# Altium schematic symbol library MyLibraryV2.SchLib: 572 symbols (part 7 of 11)
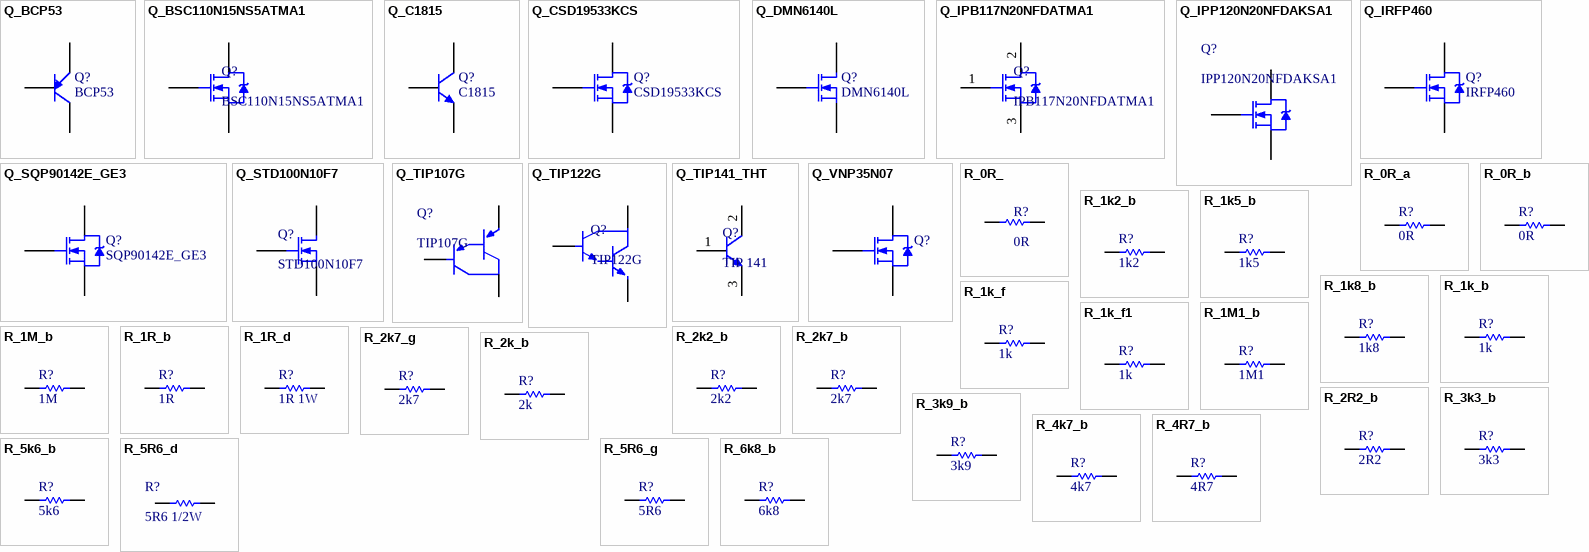
[diagram p22: symbols Q_BCP53 to R_6k8_b]

## R_2k7_g
designator R?, comment 2k7
Resistor SMD 2010; Manufacturer: TE Connectivity; Manufacturer Part Number: 35022K7JT; ComponentLink1URL: http://datasheet.octopart.com/35022K7JT-TE-Connectivity-datasheet-130072828.pdf?src-supplier=Mouser; ComponentLink1Description: http://datasheet.octopart.com/35022K7JT-TE-Connectivity-datasheet-130072828.pdf?src-supplier=Mouser; ComponentLink2URL: http://datasheet.octopart.com/35022K7JT-TE-Connectivity-datasheet-130072828.pdf?src-supplier=Avnet; ComponentLink2Description: http://datasheet.octopart.com/35022K7JT-TE-Connectivity-datasheet-130072828.pdf?src-supplier=Avnet; ComponentLink3URL: http://datasheet.octopart.com/35022K7JT-TE-Connectivity-datasheet-130072828.pdf?src-supplier=Digikey; ComponentLink3Description: http://datasheet.octopart.com/35022K7JT-TE-Connectivity-datasheet-130072828.pdf?src-supplier=Digikey; ComponentLink4URL: http://datasheet.octopart.com/35022K7JT-TE-Connectivity-datasheet-130072828.pdf?src-supplier=Farnell; ComponentLink4Description: http://datasheet.octopart.com/35022K7JT-TE-Connectivity-datasheet-130072828.pdf?src-supplier=Farnell; ComponentLink5URL: http://datasheet.octopart.com/35022K7JT-TE-Connectivity-datasheet-130072828.pdf?src-supplier=Onlinecomponents.com; ComponentLink5Description: http://datasheet.octopart.com/35022K7JT-TE-Connectivity-datasheet-130072828.pdf?src-supplier=Onlinecomponents.com; ComponentLink6URL: http://datasheet.octopart.com/35022K7JT-TE-Connectivity-datasheet-130072828.pdf?src-supplier=Newark; ComponentLink6Description: http://datasheet.octopart.com/35022K7JT-TE-Connectivity-datasheet-130072828.pdf?src-supplier=Newark; ComponentLink7URL: http://datasheet.octopart.com/35022K7JT-TE-Connectivity-datasheet-130072828.pdf?src-supplier=Electro+Sonic; ComponentLink7Description: http://datasheet.octopart.com/35022K7JT-TE-Connectivity-datasheet-130072828.pdf?src-supplier=Electro+Sonic; ComponentLink8URL: http://datasheet.octopart.com/35022K7JT-TE-Connectivity-datasheet-130072828.pdf?src-supplier=Heilind+Electronics; ComponentLink8Description: http://datasheet.octopart.com/35022K7JT-TE-Connectivity-datasheet-130072828.pdf?src-supplier=Heilind+Electronics; ComponentLink9URL: http://datasheet.octopart.com/35022K7JT-TE-Connectivity-datasheet-130072828.pdf?src-supplier=Interstate+Connecting+Components; ComponentLink9Description: http://datasheet.octopart.com/35022K7JT-TE-Connectivity-datasheet-130072828.pdf?src-supplier=Interstate+Connecting+Components; Supplier 1: Digikey; Supplier Part Number 1: A143333CT-ND; RoHS: No; Category: Chip SMD Resistors; Stock 1: 824; Pricing 1: 1=0,9, 10=0,512, 50=0,3676, 100=0,3224, 500=0,24714, 1000=0,2233 (USD); Value: 2k7
footprint R_2010_5025_a
pins: 1, 2

## R_2k_b
designator R?, comment 2k
Resistor SMD 0805; Manufacturer: Stackpole Electronics; Manufacturer Part Number: RMCF0805FT2K00; Tolerance: 1%; Power Rating: 125mW; Temperature Coefficient: 100ppm/°C; Mounting Technology: Surface Mount; Case/Package: 0805; Case Code (Metric): 2012; Case Code (Imperial): 0805; Contact Plating: Tin,Matte; Min Operating Temperature: -55°C; Max Operating Temperature: 155°C; Packaging: Tape and Reel; Number of Terminations: 2; Max Power Dissipation: 125mW; Features: Automotive AEC-Q200; Series: RMCF; Construction: Rectangular; Length: 2mm; Width: 0.049inch; Height: 0.026inch; Depth: 1.25mm; Ratings: AEC-Q200; Radiation Hardening: No; Military Standard: Not; Lead Free: Lead Free; RoHS Compliant: Yes; ComponentLink1URL: http://components.arrow.com/part/dataview/50507890S7171789N1174?src-supplier=Arrow+Electronics; ComponentLink1Description: http://components.arrow.com/part/dataview/50507890S7171789N1174?src-supplier=Arrow+Electronics; ComponentLink2URL: https://www.seielect.com/catalog/SEI-Packaging.pdf?src-supplier=Digikey; ComponentLink2Description: https://www.seielect.com/catalog/SEI-Packaging.pdf?src-supplier=Digikey; ComponentLink3URL: https://www.seielect.com/catalog/SEI-RMCF_RMCP.pdf?src-supplier=Avnet; ComponentLink3Description: https://www.seielect.com/catalog/SEI-RMCF_RMCP.pdf?src-supplier=Avnet; ComponentLink4URL: http://www.seielect.com/Catalog/SEI-rmc.pdf?src-supplier=Future+Electronics; ComponentLink4Description: http://www.seielect.com/Catalog/SEI-rmc.pdf?src-supplier=Future+Electronics; ComponentLink5URL: https://datasheet.octopart.com/RMCF0805FT2K00-Stackpole-Electronics-datasheet-11547379.pdf?src-supplier=Future+Electronics; ComponentLink5Description: https://datasheet.octopart.com/RMCF0805FT2K00-Stackpole-Electronics-datasheet-11547379.pdf?src-supplier=Future+Electronics; ComponentLink6URL: https://www.verical.com/server-webapp/html/getDatasheet?partID=362048&src-supplier=Verical; ComponentLink6Description: https://www.verical.com/server-webapp/html/getDatasheet?partID=362048&src-supplier=Verical; Supplier 1: Digikey; Supplier Part Number 1: RMCF0805FT2K00CT-ND; RoHS: Yes; Category: Chip SMD Resistors; Stock 1: 64301; Pricing 1: 1=0,1, 10=0,02, 50=0,0124, 100=0,0103, 500=0,007, 1000=0,00601 (USD); Value: 2k
footprint R_0805_2012_a (Chip Resistor; Body 2.0 x 1.3 mm (LxW typ))
pins: 1, 2

## R_2R2_b
designator R?, comment 2R2
Resistor SMD 0805; Manufacturer: Stackpole Electronics; Manufacturer Part Number: RMCF0805FT2R20; Tolerance: 1%; Max Power Dissipation: 125mW; Temperature Coefficient: 200ppm/°C; Voltage Rating: 150V; Mounting Technology: Surface Mount; Case/Package: 0805; Case Code (Metric): 2012; Case Code (Imperial): 0805; Contact Plating: Tin,Matte; Min Operating Temperature: -55°C; Max Operating Temperature: 155°C; Packaging: Tape and Reel; Number of Terminations: 2; Features: Automotive AEC-Q200; Series: RMCF; Ratings: AEC-Q200; Radiation Hardening: No; RoHS Compliant: Yes; ComponentLink1URL: http://components.arrow.com/part/dataview/50863995S9485631N1174?src-supplier=Arrow+Electronics; ComponentLink1Description: http://components.arrow.com/part/dataview/50863995S9485631N1174?src-supplier=Arrow+Electronics; ComponentLink2URL: https://www.seielect.com/Catalog/SEI-RMCF_RMCP.pdf?src-supplier=Digikey; ComponentLink2Description: https://www.seielect.com/Catalog/SEI-RMCF_RMCP.pdf?src-supplier=Digikey; ComponentLink3URL: https://www.seielect.com/catalog/SEI-Packaging.pdf?src-supplier=Digikey; ComponentLink3Description: https://www.seielect.com/catalog/SEI-Packaging.pdf?src-supplier=Digikey; ComponentLink4URL: https://www.seielect.com/catalog/SEI-RMCF_RMCP.pdf?src-supplier=Avnet; ComponentLink4Description: https://www.seielect.com/catalog/SEI-RMCF_RMCP.pdf?src-supplier=Avnet; Supplier 1: Digikey; Supplier Part Number 1: RMCF0805FT2R20CT-ND; RoHS: Yes; Category: Chip SMD Resistors; Stock 1: 242170; Pricing 1: 1=0,1, 10=0,025, 50=0,0156, 100=0,0131, 500=0,00896, 1000=0,00773 (USD); Value: 2R2
footprint R_0805_2012_a (Chip Resistor; Body 2.0 x 1.3 mm (LxW typ))
pins: 1, 2

## R_3k3_b
designator R?, comment 3k3
Resistor SMD 0805; Manufacturer: Stackpole Electronics; Manufacturer Part Number: RMCF0805FT3K30; Tolerance: 1%; Max Power Dissipation: 125mW; Temperature Coefficient: 100ppm/°C; Mounting Technology: Surface Mount; Case/Package: 0805; Case Code (Metric): 2012; Case Code (Imperial): 0805; Contact Plating: Tin,Matte; Min Operating Temperature: -55°C; Max Operating Temperature: 155°C; Packaging: Tape and Reel; Number of Terminations: 2; Features: Automotive AEC-Q200; Series: RMCF; Construction: Rectangular; Length: 0.079inch; Width: 0.049inch; Height: 0.026inch; Depth: 1.25mm; Ratings: AEC-Q200; Radiation Hardening: No; Military Standard: Not; Lead Free: Lead Free; RoHS Compliant: Yes; ComponentLink1URL: http://components.arrow.com/part/dataview/44988206S7289285N1174?src-supplier=Arrow+Electronics; ComponentLink1Description: http://components.arrow.com/part/dataview/44988206S7289285N1174?src-supplier=Arrow+Electronics; ComponentLink2URL: https://www.seielect.com/catalog/sei-rmcf_rmcp.pdf?src-supplier=Digikey; ComponentLink2Description: https://www.seielect.com/catalog/sei-rmcf_rmcp.pdf?src-supplier=Digikey; ComponentLink3URL: https://www.seielect.com/catalog/SEI-Packaging.pdf?src-supplier=Digikey; ComponentLink3Description: https://www.seielect.com/catalog/SEI-Packaging.pdf?src-supplier=Digikey; ComponentLink4URL: https://www.seielect.com/catalog/SEI-RMCF_RMCP.pdf?src-supplier=Avnet; ComponentLink4Description: https://www.seielect.com/catalog/SEI-RMCF_RMCP.pdf?src-supplier=Avnet; ComponentLink5URL: https://datasheet.octopart.com/RMCF0805FT3K30-Stackpole-Electronics-datasheet-12534581.pdf?src-supplier=Future+Electronics; ComponentLink5Description: https://datasheet.octopart.com/RMCF0805FT3K30-Stackpole-Electronics-datasheet-12534581.pdf?src-supplier=Future+Electronics; ComponentLink6URL: https://www.verical.com/server-webapp/html/getDatasheet?partID=365387&src-supplier=Verical; ComponentLink6Description: https://www.verical.com/server-webapp/html/getDatasheet?partID=365387&src-supplier=Verical; ComponentLink7URL: https://datasheet.octopart.com/RMCF0805FT3K30-Stackpole-Electronics-datasheet-154799224.pdf?src-supplier=Master+Electronics; ComponentLink7Description: https://datasheet.octopart.com/RMCF0805FT3K30-Stackpole-Electronics-datasheet-154799224.pdf?src-supplier=Master+Electronics; Supplier 1: Digikey; Supplier Part Number 1: RMCF0805FT3K30CT-ND; RoHS: Yes; Category: Chip SMD Resistors; Stock 1: 156926; Pricing 1: 1=0,1, 10=0,02, 50=0,0124, 100=0,0103, 500=0,007, 1000=0,00601 (USD); Value: 3k3
footprint R_0805_2012_a (Chip Resistor; Body 2.0 x 1.3 mm (LxW typ))
pins: 1, 2

## R_3k9_b
designator R?, comment 3k9
Resistor SMD 0805; Manufacturer: Bourns; Manufacturer Part Number: CR0805-FX-3901ELF; Power Rating: 125mW; Tolerance: 1%; Voltage Rating: 150V; Temperature Coefficient: 100ppm/°C; Mounting Technology: Surface Mount; Case/Package: 0805; Case Code (Imperial): 0805; Case Code (Metric): 2012; Contact Plating: Tin; Min Operating Temperature: -55°C; Max Operating Temperature: 155°C; Packaging: Tape and Reel; Package Quantity: 5000; Termination: SMD/SMT; Features: Moisture Resistant; Series: CR0805; Max Power Dissipation: 125mW; Number of Terminations: 2; Length: 2mm; Width: 1.25mm; Height: 0.5mm; Thickness: 508um; Radiation Hardening: No; RoHS Compliant: Yes; ComponentLink1URL: https://datasheet.ciiva.com/5552/chpreztr-5552395.pdf?src-supplier=Mouser; ComponentLink1Description: https://datasheet.ciiva.com/5552/chpreztr-5552395.pdf?src-supplier=Mouser; ComponentLink2URL: https://datasheet.ciiva.com/9122/chpreztr-9122908.pdf?src-supplier=Avnet; ComponentLink2Description: https://datasheet.ciiva.com/9122/chpreztr-9122908.pdf?src-supplier=Avnet; Supplier 1: Digikey; Supplier Part Number 1: 118-CR0805-FX-3901ELFCT-ND; RoHS: Yes; Category: Chip SMD Resistors; Stock 1: 122964; Pricing 1: 1=0,1, 10=0,021, 50=0,0132, 100=0,011, 500=0,00744, 1000=0,00639 (USD); Value: 3k9
footprint R_0805_2012_a (Chip Resistor; Body 2.0 x 1.3 mm (LxW typ))
pins: 1, 2

## R_4k7_b
designator R?, comment 4k7
Resistor SMD 0805; Manufacturer: Stackpole Electronics; Manufacturer Part Number: RMCF0805FT4K70; Tolerance: 1%; Power Rating: 125mW; Temperature Coefficient: 100ppm/°C; Mounting Technology: Surface Mount; Case/Package: 0805; Case Code (Metric): 2012; Case Code (Imperial): 0805; Contact Plating: Tin,Matte; Min Operating Temperature: -55°C; Max Operating Temperature: 155°C; Packaging: Tape and Reel; Number of Terminations: 2; Max Power Dissipation: 125mW; Features: Automotive AEC-Q200; Series: RMCF; Construction: Rectangular; Length: 2mm; Width: 0.049inch; Height: 0.026inch; Depth: 1.25mm; Ratings: AEC-Q200; Radiation Hardening: No; Military Standard: Not; Lead Free: Lead Free; RoHS Compliant: Yes; ComponentLink1URL: https://www.seielect.com/catalog/SEI-RMCF_RMCP.pdf?src-supplier=Avnet; ComponentLink1Description: https://www.seielect.com/catalog/SEI-RMCF_RMCP.pdf?src-supplier=Avnet; ComponentLink2URL: https://www.seielect.com/Catalog/SEI-RMCF_RMCP.pdf?src-supplier=Digikey; ComponentLink2Description: https://www.seielect.com/Catalog/SEI-RMCF_RMCP.pdf?src-supplier=Digikey; ComponentLink3URL: https://www.seielect.com/catalog/SEI-Packaging.pdf?src-supplier=Digikey; ComponentLink3Description: https://www.seielect.com/catalog/SEI-Packaging.pdf?src-supplier=Digikey; ComponentLink4URL: http://components.arrow.com/part/dataview/44988207S7163511N1174?src-supplier=Arrow+Electronics; ComponentLink4Description: http://components.arrow.com/part/dataview/44988207S7163511N1174?src-supplier=Arrow+Electronics; ComponentLink5URL: http://www.seielect.com/catalog/sei-rmc.pdf?src-supplier=Future+Electronics; ComponentLink5Description: http://www.seielect.com/catalog/sei-rmc.pdf?src-supplier=Future+Electronics; ComponentLink6URL: https://datasheet.octopart.com/RMCF0805FT4K70-Stackpole-Electronics-datasheet-11547379.pdf?src-supplier=Future+Electronics; ComponentLink6Description: https://datasheet.octopart.com/RMCF0805FT4K70-Stackpole-Electronics-datasheet-11547379.pdf?src-supplier=Future+Electronics; ComponentLink7URL: https://www.verical.com/server-webapp/html/getDatasheet?partID=409513&src-supplier=Verical; ComponentLink7Description: https://www.verical.com/server-webapp/html/getDatasheet?partID=409513&src-supplier=Verical; Supplier 1: Digikey; Supplier Part Number 1: RMCF0805FT4K70CT-ND; RoHS: Yes; Category: Chip SMD Resistors; Stock 1: 619298; Pricing 1: 1=0,1, 10=0,02, 50=0,0124, 100=0,0103, 500=0,007, 1000=0,00601 (USD); Value: 4k7
footprint R_0805_2012_a (Chip Resistor; Body 2.0 x 1.3 mm (LxW typ))
pins: 1, 2

## R_4R7_b
designator R?, comment 4R7
Resistor SMD 0805; Manufacturer: Stackpole Electronics; Manufacturer Part Number: RMCF0805FT4R70; Tolerance: 1%; Max Power Dissipation: 125mW; Temperature Coefficient: 200ppm/°C; Voltage Rating: 150V; Mounting Technology: Surface Mount; Case/Package: 0805; Case Code (Metric): 2012; Case Code (Imperial): 0805; Contact Plating: Tin,Matte; Min Operating Temperature: -55°C; Max Operating Temperature: 155°C; Packaging: Tape and Reel; Number of Terminations: 2; Features: Automotive AEC-Q200; Series: RMCF; Ratings: AEC-Q200; Radiation Hardening: No; RoHS Compliant: Yes; ComponentLink1URL: http://components.arrow.com/part/dataview/50867799S797658N1174?src-supplier=Arrow+Electronics; ComponentLink1Description: http://components.arrow.com/part/dataview/50867799S797658N1174?src-supplier=Arrow+Electronics; ComponentLink2URL: https://www.seielect.com/catalog/SEI-RMCF_RMCP.pdf?src-supplier=Avnet; ComponentLink2Description: https://www.seielect.com/catalog/SEI-RMCF_RMCP.pdf?src-supplier=Avnet; ComponentLink3URL: https://www.seielect.com/catalog/SEI-Packaging.pdf?src-supplier=Digikey; ComponentLink3Description: https://www.seielect.com/catalog/SEI-Packaging.pdf?src-supplier=Digikey; Supplier 1: Digikey; Supplier Part Number 1: RMCF0805FT4R70CT-ND; RoHS: Yes; Category: Chip SMD Resistors; Stock 1: 32263; Pricing 1: 1=0,1, 10=0,025, 50=0,0156, 100=0,0131, 500=0,00896, 1000=0,00773 (USD); Value: 4R7
footprint R_0805_2012_a (Chip Resistor; Body 2.0 x 1.3 mm (LxW typ))
pins: 1, 2

## R_5k6_b
designator R?, comment 5k6
Resistor SMD 0805; Manufacturer: TE Connectivity; Manufacturer Part Number: CRG0805F5K6; Tolerance: 1%; Temperature Coefficient: 100ppm/°C; Power Rating: 125mW; Voltage Rating: 150V; Number of Resistors: 1; Mounting Technology: Surface Mount; Case/Package: 0805; Case Code (Imperial): 0805; Case Code (Metric): 2012; Min Operating Temperature: -55°C; Max Operating Temperature: 125°C; Packaging: Tape and Reel; Number of Terminations: 2; Series: CRG; Resistor Type: Thick Film; Termination: Solder; Technology: THICK FILM; Length: 2mm; Width: 1.25mm; Height: 0.55mm; Depth: 1.25mm; RoHS Compliant: Yes; ELV: Compliant; ComponentLink1URL: https://datasheet.ciiva.com/11809/0900766b800a696e-11809932.pdf?src-supplier=Rs; ComponentLink1Description: https://datasheet.ciiva.com/11809/0900766b800a696e-11809932.pdf?src-supplier=Rs; ComponentLink2URL: https://datasheet.ciiva.com/12563/eng-ds-1773204-g-12563327.pdf?src-supplier=Mouser; ComponentLink2Description: https://datasheet.ciiva.com/12563/eng-ds-1773204-g-12563327.pdf?src-supplier=Mouser; Supplier 1: Digikey; Supplier Part Number 1: A126380CT-ND; RoHS: Yes; Stock 1: 44154; Pricing 1: 1=0,1, 10=0,034, 50=0,0218, 100=0,0182, 500=0,01264, 1000=0,01093 (USD); Value: 5k6
footprint R_0805_2012_a (Chip Resistor; Body 2.0 x 1.3 mm (LxW typ))
pins: 1, 2

## R_5R6_d
designator R?, comment 5R6 1/2W
Resistor SMD 2512; Value: 5R6 1/2W
footprint R_2512_6432_a
pins: 1, 2

## R_5R6_g
designator R?, comment 5R6
Resistor SMD 2010; Manufacturer: Yageo; Manufacturer Part Number: RC2010FK-075R6L; Power Rating: 750mW; Tolerance: 1%; Voltage Rating: 200V; Temperature Coefficient: 200ppm/°C; Case/Package: 2010; Case Code (Imperial): 2010; Case Code (Metric): 5025; Min Operating Temperature: -55°C; Max Operating Temperature: 155°C; Packaging: Tape and Reel; Termination: SMD/SMT; Number of Terminations: 2; Max Power Dissipation: 750mW; Features: Moisture Resistant; Series: RC; Length: 0.197inch; Width: 2.5mm; Height: 0.026inch; Lead Free: Lead Free; RoHS Compliant: Yes; ComponentLink1URL: https://datasheet.ciiva.com/17080/pyu-rc2010-51-rohs-l-4-17080012.pdf?src-supplier=Future+Electronics; ComponentLink1Description: https://datasheet.ciiva.com/17080/pyu-rc2010-51-rohs-l-4-17080012.pdf?src-supplier=Future+Electronics; Supplier 1: Digikey; Supplier Part Number 1: 13-RC2010FK-075R6LCT-ND; RoHS: Yes; Category: Chip SMD Resistors; Stock 1: 2477; Pricing 1: 1=0,44, 10=0,233, 50=0,16, 100=0,1377, 500=0,1011, 1000=0,08956 (USD); Value: 5R6
footprint R_2010_5025_a
pins: 1, 2

## R_6k8_b
designator R?, comment 6k8
Resistor SMD 0805; Manufacturer: Bourns; Manufacturer Part Number: CR0805-FX-6801ELF; Power Rating: 125mW; Tolerance: 1%; Voltage Rating: 150V; Temperature Coefficient: 100ppm/°C; Mounting Technology: Surface Mount; Case/Package: 0805; Case Code (Imperial): 0805; Case Code (Metric): 2012; Contact Plating: Tin; Min Operating Temperature: -55°C; Max Operating Temperature: 155°C; Packaging: Tape and Reel; Package Quantity: 5000; Termination: SMD/SMT; Number of Terminations: 2; Max Power Dissipation: 125mW; Features: Moisture Resistant; Series: CR0805; Length: 0.079inch; Width: 1.25mm; Height: 0.024inch; Thickness: 508um; Radiation Hardening: No; RoHS Compliant: Yes; ComponentLink1URL: https://datasheet.ciiva.com/9122/chpreztr-9122584.pdf?src-supplier=Avnet; ComponentLink1Description: https://datasheet.ciiva.com/9122/chpreztr-9122584.pdf?src-supplier=Avnet; ComponentLink2URL: https://datasheet.ciiva.com/18608/chpreztr-18608667.pdf?src-supplier=Digikey; ComponentLink2Description: https://datasheet.ciiva.com/18608/chpreztr-18608667.pdf?src-supplier=Digikey; ComponentLink3URL: https://datasheet.ciiva.com/18608/chpreztr-18608668.pdf?src-supplier=Digikey; ComponentLink3Description: https://datasheet.ciiva.com/18608/chpreztr-18608668.pdf?src-supplier=Digikey; ComponentLink4URL: https://datasheet.ciiva.com/18608/chpreztr-18608669.pdf?src-supplier=Digikey; ComponentLink4Description: https://datasheet.ciiva.com/18608/chpreztr-18608669.pdf?src-supplier=Digikey; Supplier 1: Digikey; Supplier Part Number 1: CR0805-FX-6801ELFCT-ND; RoHS: Yes; Category: Chip SMD Resistors; Stock 1: 238796; Pricing 1: 1=0,1, 10=0,021, 50=0,013, 100=0,0108, 500=0,00738, 1000=0,00636 (USD); Value: 6k8
footprint R_0805_2012_a (Chip Resistor; Body 2.0 x 1.3 mm (LxW typ))
pins: 1, 2

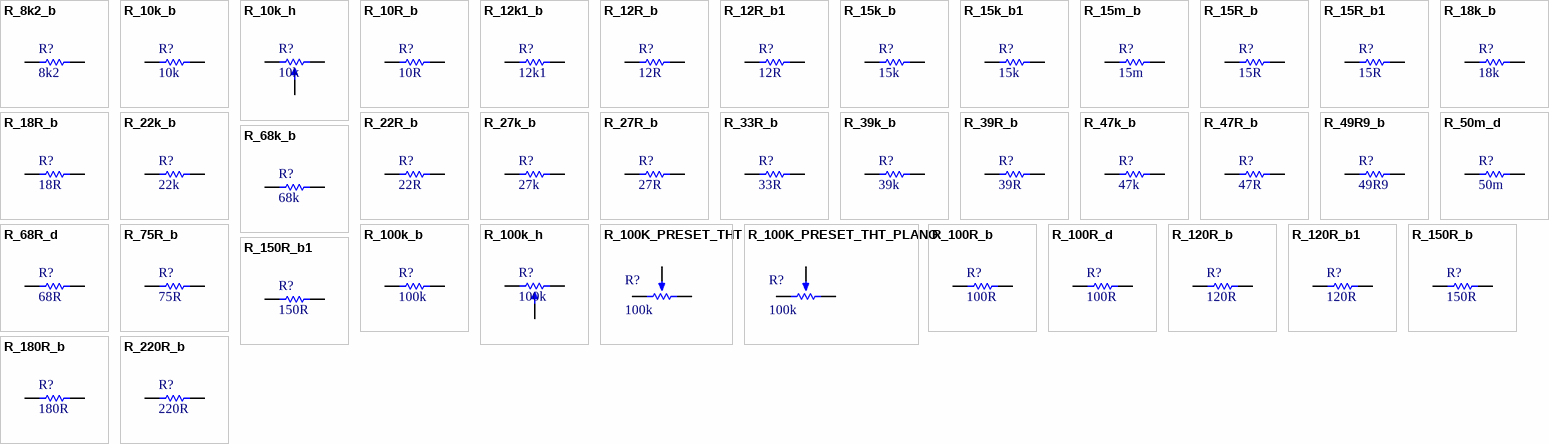
[diagram p9: symbols R_8k2_b to R_220R_b]

## R_8k2_b
designator R?, comment 8k2
Resistor SMD 0805; Manufacturer: Stackpole Electronics; Manufacturer Part Number: RMCF0805FT8K20; Tolerance: 1%; Max Power Dissipation: 125mW; Temperature Coefficient: 100ppm/°C; Mounting Technology: Surface Mount; Case/Package: 0805; Case Code (Metric): 2012; Case Code (Imperial): 0805; Contact Plating: Tin,Matte; Min Operating Temperature: -55°C; Max Operating Temperature: 155°C; Packaging: Tape and Reel; Number of Terminations: 2; Features: Automotive AEC-Q200; Series: RMCF; Construction: Rectangular; Length: 0.079inch; Width: 0.049inch; Height: 0.026inch; Depth: 1.25mm; Radiation Hardening: No; Military Standard: Not; Lead Free: Lead Free; RoHS Compliant: Yes; ComponentLink1URL: http://components.arrow.com/part/dataview/50499601S797661N1174?src-supplier=Arrow+Electronics; ComponentLink1Description: http://components.arrow.com/part/dataview/50499601S797661N1174?src-supplier=Arrow+Electronics; ComponentLink2URL: https://www.seielect.com/catalog/SEI-RMCF_RMCP.pdf?src-supplier=Avnet; ComponentLink2Description: https://www.seielect.com/catalog/SEI-RMCF_RMCP.pdf?src-supplier=Avnet; ComponentLink3URL: https://www.seielect.com/catalog/sei-rmcf_rmcp.pdf?src-supplier=Digikey; ComponentLink3Description: https://www.seielect.com/catalog/sei-rmcf_rmcp.pdf?src-supplier=Digikey; ComponentLink4URL: https://www.seielect.com/catalog/SEI-Packaging.pdf?src-supplier=Digikey; ComponentLink4Description: https://www.seielect.com/catalog/SEI-Packaging.pdf?src-supplier=Digikey; Supplier 1: Digikey; Supplier Part Number 1: RMCF0805FT8K20CT-ND; RoHS: Yes; Category: Chip SMD Resistors; Stock 1: 213571; Pricing 1: 1=0,1, 10=0,02, 50=0,0124, 100=0,0103, 500=0,007, 1000=0,00601 (USD); Value: 8k2
footprint R_0805_2012_a (Chip Resistor; Body 2.0 x 1.3 mm (LxW typ))
pins: 1, 2

## R_10k_b
designator R?, comment 10k
Resistor SMD 0805; Manufacturer: Yageo; Manufacturer Part Number: AC0805FR-0710KL; Tolerance: 1%; Power Rating: 125mW; Voltage Rating: 150V; Temperature Coefficient: 100ppm/°C; Case/Package: 0805; Case Code (Metric): 2012; Case Code (Imperial): 0805; Min Operating Temperature: -55°C; Max Operating Temperature: 155°C; Packaging: Tape and Reel; Package Quantity: 1; Number of Terminations: 2; Termination: SMD/SMT; Max Power Dissipation: 125mW; Features: Moisture Resistant,Automotive AEC-Q200,Anti-Sulfur; Series: AC; Construction: Rectangular; Length: 0.079inch; Width: 0.049inch; Height: 0.024inch; Depth: 1.25mm; Military Standard: Not; Lead Free: Lead Free; RoHS Compliant: Yes; ComponentLink1URL: http://www.yageo.com/NewPortal/yageodocoutput?fileName=/pdf/R-Chip/PYu-AC_51_RoHS_L_6.pdf&src-supplier=Digikey; ComponentLink1Description: http://www.yageo.com/NewPortal/yageodocoutput?fileName=/pdf/R-Chip/PYu-AC_51_RoHS_L_6.pdf&src-supplier=Digikey; ComponentLink2URL: http://www.yageo.com/documents/recent/PYu-AC_51_RoHS_L_2_revised.pdf?src-supplier=Future+Electronics; ComponentLink2Description: http://www.yageo.com/documents/recent/PYu-AC_51_RoHS_L_2_revised.pdf?src-supplier=Future+Electronics; ComponentLink3URL: http://www.yageo.com/NewPortal/yageodocoutput?fileName=/pdf/R-Chip/PYu-AC_51_RoHS_L_6.pdf&src-supplier=NAC+Semi; ComponentLink3Description: http://www.yageo.com/NewPortal/yageodocoutput?fileName=/pdf/R-Chip/PYu-AC_51_RoHS_L_6.pdf&src-supplier=NAC+Semi; ComponentLink4URL: http://www.yageo.com/NewPortal/yageodocoutput?fileName=/pdf/R-Chip/PYu-AC_51_RoHS_L_6.pdf&src-supplier=Rutronik; ComponentLink4Description: http://www.yageo.com/NewPortal/yageodocoutput?fileName=/pdf/R-Chip/PYu-AC_51_RoHS_L_6.pdf&src-supplier=Rutronik; Supplier 1: Digikey; Supplier Part Number 1: 311-10KLGCT-ND; RoHS: Yes; Category: Chip SMD Resistors; Stock 1: 480247; Pricing 1: 1=0,1, 10=0,031, 50=0,0198, 100=0,0166, 500=0,01152, 1000=0,00997 (USD); Value: 10k
footprint R_0805_2012_a (Chip Resistor; Body 2.0 x 1.3 mm (LxW typ))
pins: 1, 2

## R_10k_h
designator R?, comment 10k
Resistor SMD Trimmer; Manufacturer: Bourns; Manufacturer Part Number: PVG5A103C03R00; Tolerance: 10%; Number of Turns: 11; Temperature Coefficient: 150ppm/°C; Max Power Dissipation: 250mW; Mounting Technology: Surface Mount; Resistor Type: Cermet; Series: PVG5; Packaging: Cut Tape; RoHS Compliant: Yes; ComponentLink1URL: http://www.mouser.com/ds/2/54/vg5-907351.pdf?src-supplier=Mouser; ComponentLink1Description: http://www.mouser.com/ds/2/54/vg5-907351.pdf?src-supplier=Mouser; ComponentLink2URL: https://www.bourns.com/docs/Product-Datasheets/pvg5.pdf?src-supplier=Digikey; ComponentLink2Description: https://www.bourns.com/docs/Product-Datasheets/pvg5.pdf?src-supplier=Digikey; ComponentLink3URL: https://datasheet.octopart.com/PVG5A103C03R00-Bourns-datasheet-154729833.pdf?src-supplier=Electro+Sonic; ComponentLink3Description: https://datasheet.octopart.com/PVG5A103C03R00-Bourns-datasheet-154729833.pdf?src-supplier=Electro+Sonic; Supplier 1: Mouser; Supplier Part Number 1: 81-PVG5A103C03R00; RoHS: Yes; Category: Uncategorized; Stock 1: 41231; Pricing 1: 1=2,89, 10=2,23, 50=2,23, 100=2,02, 1000=1,57, 10000=1,32 (USD); Value: 10k
footprint R_Trimmer SMD
pins: 1, 2, 3

## R_10R_b
designator R?, comment 10R
Resistor SMD 0805; Manufacturer: Bourns; Manufacturer Part Number: CR0805AFX-10R0EAS; ComponentLink1URL: https://www.bourns.com/docs/product-datasheets/crxxxxa-as.pdf?src-supplier=Digikey; ComponentLink1Description: https://www.bourns.com/docs/product-datasheets/crxxxxa-as.pdf?src-supplier=Digikey; Supplier 1: Digikey; Supplier Part Number 1: CR0805AFX-10R0EASCT-ND; RoHS: Yes; Category: Chip SMD Resistors; Stock 1: 47543; Pricing 1: 1=0,1, 10=0,037, 50=0,024, 100=0,0202, 500=0,01406, 1000=0,01223 (USD); Value: 10R
footprint R_0805_2012_a (Chip Resistor; Body 2.0 x 1.3 mm (LxW typ))
pins: 1, 2

## R_12k1_b
designator R?, comment 12k1
Resistor SMD 0805; Manufacturer: Stackpole Electronics; Manufacturer Part Number: RMCF0805FT12K1; Tolerance: 1%; Power Rating: 125mW; Temperature Coefficient: 100ppm/°C; Mounting Technology: Surface Mount; Case/Package: 0805; Case Code (Metric): 2012; Case Code (Imperial): 0805; Contact Plating: Tin,Matte; Min Operating Temperature: -55°C; Max Operating Temperature: 155°C; Packaging: Tape and Reel; Number of Terminations: 2; Max Power Dissipation: 125mW; Features: Automotive AEC-Q200; Series: RMCF; Construction: Rectangular; Length: 0.079inch; Width: 0.049inch; Height: 0.026inch; Depth: 1.25mm; Ratings: AEC-Q200; Radiation Hardening: No; Lead Free: Lead Free; Military Standard: Not; RoHS Compliant: Yes; ComponentLink1URL: https://datasheet.ciiva.com/15193/getdatasheetpartid-483936-15193530.pdf?src-supplier=Verical; ComponentLink1Description: https://datasheet.ciiva.com/15193/getdatasheetpartid-483936-15193530.pdf?src-supplier=Verical; Supplier 1: Digikey; Supplier Part Number 1: RMCF0805FT12K1CT-ND; RoHS: Yes; Category: Chip SMD Resistors; Stock 1: 644845; Pricing 1: 1=0,1, 10=0,02, 50=0,0124, 100=0,0103, 500=0,007, 1000=0,00601 (USD); Value: 12k1
footprint R_0805_2012_a (Chip Resistor; Body 2.0 x 1.3 mm (LxW typ))
pins: 1, 2

## R_12R_b
designator R?, comment 12R
Resistor SMD 0805; Manufacturer: Stackpole Electronics; Manufacturer Part Number: RMCF0805FT12R0; Tolerance: 1%; Max Power Dissipation: 125mW; Temperature Coefficient: 100ppm/°C; Voltage Rating: 150V; Mounting Technology: Surface Mount; Case/Package: 0805; Case Code (Metric): 2012; Case Code (Imperial): 0805; Contact Plating: Tin,Matte; Min Operating Temperature: -55°C; Max Operating Temperature: 155°C; Packaging: Tape and Reel; Number of Terminations: 2; Package Quantity: 5000; Features: Automotive AEC-Q200; Series: RMCF; Length: 0.079inch; Width: 0.049inch; Height: 0.026inch; Ratings: AEC-Q200; Radiation Hardening: No; Lead Free: Lead Free; RoHS Compliant: Yes; ComponentLink1URL: https://www.seielect.com/catalog/sei-rmcf_rmcp.pdf?src-supplier=Digikey; ComponentLink1Description: https://www.seielect.com/catalog/sei-rmcf_rmcp.pdf?src-supplier=Digikey; ComponentLink2URL: https://www.seielect.com/catalog/SEI-Packaging.pdf?src-supplier=Digikey; ComponentLink2Description: https://www.seielect.com/catalog/SEI-Packaging.pdf?src-supplier=Digikey; ComponentLink3URL: https://www.seielect.com/catalog/SEI-RMCF_RMCP.pdf?src-supplier=Avnet; ComponentLink3Description: https://www.seielect.com/catalog/SEI-RMCF_RMCP.pdf?src-supplier=Avnet; ComponentLink4URL: http://www.seielect.com/Catalog/SEI-RMCF_RMCP.pdf?src-supplier=Digikey; ComponentLink4Description: http://www.seielect.com/Catalog/SEI-RMCF_RMCP.pdf?src-supplier=Digikey; Supplier 1: Digikey; Supplier Part Number 1: RMCF0805FT12R0CT-ND; RoHS: Yes; Category: Chip SMD Resistors; Stock 1: 36507; Pricing 1: 1=0,1, 10=0,02, 50=0,0124, 100=0,0103, 500=0,007, 1000=0,00601 (USD); Value: 12R
footprint R_0805_2012_a (Chip Resistor; Body 2.0 x 1.3 mm (LxW typ))
pins: 1, 2

## R_12R_b1
designator R?, comment 12R
Resistor SMD 0805; Manufacturer: Yageo; Manufacturer Part Number: RC0805FR-0712RL; Voltage Rating: 150V; Power Rating: 125mW; Tolerance: 1%; Temperature Coefficient: 100ppm/°C; Case/Package: 0805; Case Code (Imperial): 0805; Case Code (Metric): 2012; Min Operating Temperature: -55°C; Max Operating Temperature: 155°C; Packaging: Tape and Reel; Package Quantity: 1; Termination: SMD/SMT; Resistor Type: Thick Film; Number of Terminations: 2; Max Power Dissipation: 125mW; Features: Moisture Resistant; Series: RC; Technology: THICK FILM; Construction: Rectangular; Resistance Tolerance: 1%; Voltage Rating (AC): 150V; Length: 2mm; Width: 0.049inch; Height: 0.5mm; Depth: 1.25mm; Military Standard: Not; RoHS Compliant: Yes; Reach SVHC Compliant: Unknown; Lead Free: 5697LeadFree; ComponentLink1URL: https://datasheet.ciiva.com/17423/rc0805-17423326.pdf?src-supplier=Future+Electronics; ComponentLink1Description: https://datasheet.ciiva.com/17423/rc0805-17423326.pdf?src-supplier=Future+Electronics; ComponentLink2URL: https://datasheet.ciiva.com/2519/pyu-r-int-thick-7-2519636.pdf?src-supplier=Digikey; ComponentLink2Description: https://datasheet.ciiva.com/2519/pyu-r-int-thick-7-2519636.pdf?src-supplier=Digikey; ComponentLink3URL: https://datasheet.ciiva.com/2519/pyu-r-int-thick-7-2519637.pdf?src-supplier=Digikey; ComponentLink3Description: https://datasheet.ciiva.com/2519/pyu-r-int-thick-7-2519637.pdf?src-supplier=Digikey; ComponentLink4URL: https://datasheet.ciiva.com/2519/pyu-r-int-thick-7-2519638.pdf?src-supplier=Digikey; ComponentLink4Description: https://datasheet.ciiva.com/2519/pyu-r-int-thick-7-2519638.pdf?src-supplier=Digikey; Supplier 1: Digikey; Supplier Part Number 1: 311-12.0CRCT-ND; RoHS: Yes; Category: Chip SMD Resistors; Stock 1: 152334; Pricing 1: 1=0,1, 10=0,025, 50=0,016, 100=0,0133, 500=0,00912, 1000=0,00787 (USD); Value: 12R
footprint R_0805_2012_a (Chip Resistor; Body 2.0 x 1.3 mm (LxW typ))
pins: 1, 2

## R_15k_b
designator R?, comment 15k
Resistor SMD 0805; Manufacturer: Bourns; Manufacturer Part Number: CR0805-FX-1502ELF; Tolerance: 1%; Temperature Coefficient: 100ppm/°C; Power Rating: 125mW; Voltage Rating: 150V; Mounting Technology: Surface Mount; Case/Package: 0805; Contact Plating: Tin; Case Code (Metric): 2012; Case Code (Imperial): 0805; Min Operating Temperature: -55°C; Max Operating Temperature: 155°C; Resistor Type: Thick Film; Packaging: Tape and Reel; Package Quantity: 5000; Number of Terminations: 2; Termination: SMD/SMT; Max Power Dissipation: 125mW; Voltage Rating (DC): 150V; Features: Moisture Resistant; Series: CR0805; Construction: Rectangular; Resistance Tolerance: 1%; Technology: THICK FILM; Length: 2mm; Width: 1.25mm; Height: 0.5mm; Depth: 1.25mm; Thickness: 508um; Radiation Hardening: No; Reach SVHC Compliant: No; Military Standard: Not; RoHS Compliant: Yes; ComponentLink1URL: https://datasheet.ciiva.com/11809/0900766b80fcdb72-11809581.pdf?src-supplier=Rs; ComponentLink1Description: https://datasheet.ciiva.com/11809/0900766b80fcdb72-11809581.pdf?src-supplier=Rs; ComponentLink2URL: https://datasheet.ciiva.com/41449/001055511-da-01-en-smd-wid-cr0805-fx-1502elf-15k-ohm-1-8w-41449978.pdf?src-supplier=Conrad; ComponentLink2Description: https://datasheet.ciiva.com/41449/001055511-da-01-en-smd-wid-cr0805-fx-1502elf-15k-ohm-1-8w-41449978.pdf?src-supplier=Conrad; ComponentLink3URL: https://datasheet.ciiva.com/5547/chpreztr-5547564.pdf?src-supplier=Mouser; ComponentLink3Description: https://datasheet.ciiva.com/5547/chpreztr-5547564.pdf?src-supplier=Mouser; ComponentLink4URL: https://datasheet.ciiva.com/6547/chpreztr-6547404.pdf?src-supplier=Digikey; ComponentLink4Description: https://datasheet.ciiva.com/6547/chpreztr-6547404.pdf?src-supplier=Digikey; ComponentLink5URL: https://datasheet.ciiva.com/6547/chpreztr-6547405.pdf?src-supplier=Digikey; ComponentLink5Description: https://datasheet.ciiva.com/6547/chpreztr-6547405.pdf?src-supplier=Digikey; ComponentLink6URL: https://datasheet.ciiva.com/6547/chpreztr-6547406.pdf?src-supplier=Digikey; ComponentLink6Description: https://datasheet.ciiva.com/6547/chpreztr-6547406.pdf?src-supplier=Digikey; ComponentLink7URL: https://datasheet.ciiva.com/15159/getdatasheetpartid-79334-15159834.pdf?src-supplier=Verical; ComponentLink7Description: https://datasheet.ciiva.com/15159/getdatasheetpartid-79334-15159834.pdf?src-supplier=Verical; Supplier 1: Digikey; Supplier Part Number 1: CR0805-FX-1502ELFCT-ND; RoHS: Yes; Category: Chip SMD Resistors; Stock 1: 161916; Pricing 1: 1=0,1, 10=0,021, 50=0,0132, 100=0,011, 500=0,00744, 1000=0,00639 (USD); Value: 15k
footprint R_0805_2012_a (Chip Resistor; Body 2.0 x 1.3 mm (LxW typ))
pins: 1, 2

## R_15k_b1
designator R?, comment 15k
Resistor SMD 0805; Manufacturer: Bourns; Manufacturer Part Number: CR0805-FX-1502ELF; Tolerance: 1%; Temperature Coefficient: 100ppm/°C; Power Rating: 125mW; Voltage Rating: 150V; Mounting Technology: Surface Mount; Case/Package: 0805; Contact Plating: Tin; Case Code (Metric): 2012; Case Code (Imperial): 0805; Min Operating Temperature: -55°C; Max Operating Temperature: 155°C; Resistor Type: Thick Film; Packaging: Tape and Reel; Package Quantity: 5000; Number of Terminations: 2; Termination: SMD/SMT; Max Power Dissipation: 125mW; Voltage Rating (DC): 150V; Features: Moisture Resistant; Series: CR0805; Construction: Rectangular; Resistance Tolerance: 1%; Technology: THICK FILM; Length: 2mm; Width: 1.25mm; Height: 0.5mm; Depth: 1.25mm; Thickness: 508um; Radiation Hardening: No; Reach SVHC Compliant: No; Military Standard: Not; RoHS Compliant: Yes; ComponentLink1URL: https://datasheet.ciiva.com/11809/0900766b80fcdb72-11809581.pdf?src-supplier=Rs; ComponentLink1Description: https://datasheet.ciiva.com/11809/0900766b80fcdb72-11809581.pdf?src-supplier=Rs; ComponentLink2URL: https://datasheet.ciiva.com/41449/001055511-da-01-en-smd-wid-cr0805-fx-1502elf-15k-ohm-1-8w-41449978.pdf?src-supplier=Conrad; ComponentLink2Description: https://datasheet.ciiva.com/41449/001055511-da-01-en-smd-wid-cr0805-fx-1502elf-15k-ohm-1-8w-41449978.pdf?src-supplier=Conrad; ComponentLink3URL: https://datasheet.ciiva.com/5547/chpreztr-5547564.pdf?src-supplier=Mouser; ComponentLink3Description: https://datasheet.ciiva.com/5547/chpreztr-5547564.pdf?src-supplier=Mouser; ComponentLink4URL: https://datasheet.ciiva.com/6547/chpreztr-6547404.pdf?src-supplier=Digikey; ComponentLink4Description: https://datasheet.ciiva.com/6547/chpreztr-6547404.pdf?src-supplier=Digikey; ComponentLink5URL: https://datasheet.ciiva.com/6547/chpreztr-6547405.pdf?src-supplier=Digikey; ComponentLink5Description: https://datasheet.ciiva.com/6547/chpreztr-6547405.pdf?src-supplier=Digikey; ComponentLink6URL: https://datasheet.ciiva.com/6547/chpreztr-6547406.pdf?src-supplier=Digikey; ComponentLink6Description: https://datasheet.ciiva.com/6547/chpreztr-6547406.pdf?src-supplier=Digikey; ComponentLink7URL: https://datasheet.ciiva.com/15159/getdatasheetpartid-79334-15159834.pdf?src-supplier=Verical; ComponentLink7Description: https://datasheet.ciiva.com/15159/getdatasheetpartid-79334-15159834.pdf?src-supplier=Verical; Supplier 1: Digikey; Supplier Part Number 1: CR0805-FX-1502ELFCT-ND; RoHS: Yes; Category: Chip SMD Resistors; Stock 1: 161916; Pricing 1: 1=0,1, 10=0,021, 50=0,0132, 100=0,011, 500=0,00744, 1000=0,00639 (USD); Value: 15k
footprint R_0805_2012_a (Chip Resistor; Body 2.0 x 1.3 mm (LxW typ))
pins: 1, 2

## R_15m_b
designator R?, comment 15m
Resistor SMD 0805; Manufacturer: Panasonic; Manufacturer Part Number: ERJ-6CWJR015V; Tolerance: 5%; Max Power Dissipation: 500mW; Temperature Coefficient: 75ppm/°C; Case/Package: 0805; Case Code (Metric): 2012; Case Code (Imperial): 0805; Min Operating Temperature: -55°C; Max Operating Temperature: 125°C; Packaging: Cut Tape; Number of Terminations: 2; Features: Automotive AEC-Q200; Series: ERJ; Length: 0.081inch; Width: 0.051inch; Height: 0.03inch; ComponentLink1URL: https://industrial.panasonic.com/cdbs/www-data/pdf/RDN0000/AOA0000C313.pdf?src-supplier=Digikey; ComponentLink1Description: https://industrial.panasonic.com/cdbs/www-data/pdf/RDN0000/AOA0000C313.pdf?src-supplier=Digikey; Supplier 1: Mouser; Supplier Part Number 1: 667-ERJ-6CWJR015V; RoHS: Yes; Category: Chip SMD Resistors; Stock 1: 1856; Pricing 1: 1=0,47, 10=0,206, 50=0,206, 100=0,111, 1000=0,084, 10000=0,069 (USD); Value: 15m
footprint R_0805_2012_a (Chip Resistor; Body 2.0 x 1.3 mm (LxW typ))
pins: 1, 2

## R_15R_b
designator R?, comment 15R
Resistor SMD 0805; Manufacturer: Stackpole Electronics; Manufacturer Part Number: RMCF0805FT15R0; Tolerance: 1%; Max Power Dissipation: 125mW; Temperature Coefficient: 100ppm/°C; Voltage Rating: 150V; Mounting Technology: Surface Mount; Case/Package: 0805; Case Code (Metric): 2012; Case Code (Imperial): 0805; Contact Plating: Tin,Matte; Min Operating Temperature: -55°C; Max Operating Temperature: 155°C; Packaging: Tape and Reel; Number of Terminations: 2; Features: Automotive AEC-Q200; Series: RMCF; Length: 0.079inch; Width: 0.049inch; Height: 0.026inch; Ratings: AEC-Q200; Radiation Hardening: No; Lead Free: Lead Free; RoHS Compliant: Yes; ComponentLink1URL: https://www.seielect.com/catalog/sei-packaging.pdf?src-supplier=Digikey; ComponentLink1Description: https://www.seielect.com/catalog/sei-packaging.pdf?src-supplier=Digikey; ComponentLink2URL: https://www.seielect.com/Catalog/SEI-RMCF_RMCP.pdf?src-supplier=Digikey; ComponentLink2Description: https://www.seielect.com/Catalog/SEI-RMCF_RMCP.pdf?src-supplier=Digikey; ComponentLink3URL: https://datasheet.octopart.com/RMCF0805FT15R0-Stackpole-Electronics-datasheet-12534581.pdf?src-supplier=Future+Electronics; ComponentLink3Description: https://datasheet.octopart.com/RMCF0805FT15R0-Stackpole-Electronics-datasheet-12534581.pdf?src-supplier=Future+Electronics; ComponentLink4URL: https://www.seielect.com/catalog/SEI-RMCF_RMCP.pdf?src-supplier=Avnet; ComponentLink4Description: https://www.seielect.com/catalog/SEI-RMCF_RMCP.pdf?src-supplier=Avnet; Supplier 1: Digikey; Supplier Part Number 1: RMCF0805FT15R0CT-ND; RoHS: Yes; Category: Chip SMD Resistors; Stock 1: 431745; Pricing 1: 1=0,1, 10=0,02, 50=0,0124, 100=0,0103, 500=0,007, 1000=0,00601 (USD); Value: 15R
footprint R_0805_2012_a (Chip Resistor; Body 2.0 x 1.3 mm (LxW typ))
pins: 1, 2

## R_15R_b1
designator R?, comment 15R
Resistor SMD 0805; Manufacturer: Stackpole Electronics; Manufacturer Part Number: RMCF0805FT15R0; Tolerance: 1%; Max Power Dissipation: 125mW; Temperature Coefficient: 100ppm/°C; Voltage Rating: 150V; Mounting Technology: Surface Mount; Case/Package: 0805; Case Code (Metric): 2012; Case Code (Imperial): 0805; Contact Plating: Tin,Matte; Min Operating Temperature: -55°C; Max Operating Temperature: 155°C; Packaging: Tape and Reel; Number of Terminations: 2; Features: Automotive AEC-Q200; Series: RMCF; Length: 0.079inch; Width: 0.049inch; Height: 0.026inch; Ratings: AEC-Q200; Radiation Hardening: No; Lead Free: Lead Free; RoHS Compliant: Yes; ComponentLink1URL: https://www.seielect.com/catalog/sei-packaging.pdf?src-supplier=Digikey; ComponentLink1Description: https://www.seielect.com/catalog/sei-packaging.pdf?src-supplier=Digikey; ComponentLink2URL: https://www.seielect.com/Catalog/SEI-RMCF_RMCP.pdf?src-supplier=Digikey; ComponentLink2Description: https://www.seielect.com/Catalog/SEI-RMCF_RMCP.pdf?src-supplier=Digikey; ComponentLink3URL: https://datasheet.octopart.com/RMCF0805FT15R0-Stackpole-Electronics-datasheet-12534581.pdf?src-supplier=Future+Electronics; ComponentLink3Description: https://datasheet.octopart.com/RMCF0805FT15R0-Stackpole-Electronics-datasheet-12534581.pdf?src-supplier=Future+Electronics; ComponentLink4URL: https://www.seielect.com/catalog/SEI-RMCF_RMCP.pdf?src-supplier=Avnet; ComponentLink4Description: https://www.seielect.com/catalog/SEI-RMCF_RMCP.pdf?src-supplier=Avnet; Supplier 1: Digikey; Supplier Part Number 1: RMCF0805FT15R0CT-ND; RoHS: Yes; Category: Chip SMD Resistors; Stock 1: 431745; Pricing 1: 1=0,1, 10=0,02, 50=0,0124, 100=0,0103, 500=0,007, 1000=0,00601 (USD); Value: 15R
footprint R_0805_2012_a (Chip Resistor; Body 2.0 x 1.3 mm (LxW typ))
pins: 1, 2

## R_18k_b
designator R?, comment 18k
Resistor SMD 0805; Manufacturer: Stackpole Electronics; Manufacturer Part Number: RMCF0805FT18K0; Tolerance: 1%; Max Power Dissipation: 125mW; Temperature Coefficient: 100ppm/°C; Mounting Technology: Surface Mount; Case/Package: 0805; Case Code (Metric): 2012; Case Code (Imperial): 0805; Contact Plating: Tin,Matte; Min Operating Temperature: -55°C; Max Operating Temperature: 155°C; Package Quantity: 5000; Packaging: Tape and Reel; Number of Terminations: 2; Features: Automotive AEC-Q200; Series: RMCF; Length: 0.079inch; Width: 0.049inch; Height: 0.026inch; Ratings: AEC-Q200; Radiation Hardening: No; Lead Free: Lead Free; RoHS Compliant: Yes; ComponentLink1URL: https://datasheet.octopart.com/RMCF0805FT18K0-Stackpole-Electronics-datasheet-12534581.pdf?src-supplier=Future+Electronics; ComponentLink1Description: https://datasheet.octopart.com/RMCF0805FT18K0-Stackpole-Electronics-datasheet-12534581.pdf?src-supplier=Future+Electronics; ComponentLink2URL: http://www.seielect.com/Catalog/SEI-RMCF_RMCP.pdf?src-supplier=Digikey; ComponentLink2Description: http://www.seielect.com/Catalog/SEI-RMCF_RMCP.pdf?src-supplier=Digikey; ComponentLink3URL: https://www.seielect.com/catalog/SEI-RMCF_RMCP.pdf?src-supplier=Avnet; ComponentLink3Description: https://www.seielect.com/catalog/SEI-RMCF_RMCP.pdf?src-supplier=Avnet; ComponentLink4URL: https://www.seielect.com/catalog/sei-rmcf_rmcp.pdf?src-supplier=Digikey; ComponentLink4Description: https://www.seielect.com/catalog/sei-rmcf_rmcp.pdf?src-supplier=Digikey; Supplier 1: Digikey; Supplier Part Number 1: RMCF0805FT18K0CT-ND; RoHS: Yes; Category: Chip SMD Resistors; Stock 1: 100918; Pricing 1: 1=0,1, 10=0,02, 50=0,0124, 100=0,0103, 500=0,007, 1000=0,00601 (USD); Value: 18k
footprint R_0805_2012_a (Chip Resistor; Body 2.0 x 1.3 mm (LxW typ))
pins: 1, 2

## R_18R_b
designator R?, comment 18R
Resistor SMD 0805; Manufacturer: KOA Speer; Manufacturer Part Number: RK73H2ATTD18R0F; Power Rating: 125mW; Tolerance: 1%; Voltage Rating: 150V; Temperature Coefficient: 100ppm/°C; Case/Package: 0805; Pins: 2; Case Code (Imperial): 0805; Case Code (Metric): 2012; Min Operating Temperature: -55°C; Max Operating Temperature: 155°C; Packaging: Tape and Reel; Package Quantity: 5000; Resistor Type: Thick Film; Termination: SMD/SMT; Series: RK73H; Construction: Rectangular; Resistance Tolerance: 1%; Length: 2mm; Width: 1.25mm; Height: 0.5mm; Depth: 1.25mm; Military Standard: Not; Lead Free: Lead Free; RoHS Compliant: Yes; ComponentLink1URL: https://datasheet.ciiva.com/5554/rk73h-5554086.pdf?src-supplier=Mouser; ComponentLink1Description: https://datasheet.ciiva.com/5554/rk73h-5554086.pdf?src-supplier=Mouser; ComponentLink2URL: https://datasheet.ciiva.com/7763/549017-7763167.pdf?src-supplier=Element14; ComponentLink2Description: https://datasheet.ciiva.com/7763/549017-7763167.pdf?src-supplier=Element14; Supplier 1: Digikey; Supplier Part Number 1: 2019-RK73H2ATTD18R0FCT-ND; RoHS: Yes; Category: Chip SMD Resistors; Stock 1: 82513; Pricing 1: 1=0,1, 10=0,027, 50=0,0172, 100=0,0144, 500=0,00992, 1000=0,00858 (USD); Value: 18R
footprint R_0805_2012_a (Chip Resistor; Body 2.0 x 1.3 mm (LxW typ))
pins: 1, 2

## R_22k_b
designator R?, comment 22k
Resistor SMD 0805; Manufacturer: Bourns; Manufacturer Part Number: CR0805-FX-2202ELF; Tolerance: 1%; Temperature Coefficient: 100ppm/°C; Power Rating: 125mW; Voltage Rating: 150V; Mounting Technology: Surface Mount; Case/Package: 0805; Contact Plating: Tin; Case Code (Metric): 2012; Case Code (Imperial): 0805; Min Operating Temperature: -55°C; Max Operating Temperature: 155°C; Resistor Type: Thick Film; Package Quantity: 1; Packaging: Tape and Reel; Number of Terminations: 2; Termination: SMD/SMT; Max Power Dissipation: 125mW; Voltage Rating (DC): 150V; Features: Moisture Resistant; Series: CR0805; Resistance Tolerance: 1%; Technology: THICK FILM; Length: 0.079inch; Width: 0.049inch; Height: 0.024inch; Depth: 1.25mm; Thickness: 508um; Radiation Hardening: No; Reach SVHC Compliant: No; RoHS Compliant: Yes; ComponentLink1URL: https://datasheet.ciiva.com/11808/0900766b80fcdb72-11808626.pdf?src-supplier=Rs; ComponentLink1Description: https://datasheet.ciiva.com/11808/0900766b80fcdb72-11808626.pdf?src-supplier=Rs; ComponentLink2URL: https://datasheet.ciiva.com/9121/chpreztr-9121869.pdf?src-supplier=Avnet; ComponentLink2Description: https://datasheet.ciiva.com/9121/chpreztr-9121869.pdf?src-supplier=Avnet; ComponentLink3URL: https://datasheet.ciiva.com/6547/chpreztr-6547407.pdf?src-supplier=Digikey; ComponentLink3Description: https://datasheet.ciiva.com/6547/chpreztr-6547407.pdf?src-supplier=Digikey; ComponentLink4URL: https://datasheet.ciiva.com/22693/1902866-22693243.pdf?src-supplier=Element14; ComponentLink4Description: https://datasheet.ciiva.com/22693/1902866-22693243.pdf?src-supplier=Element14; ComponentLink5URL: https://datasheet.ciiva.com/5541/chpreztr-5541630.pdf?src-supplier=Mouser; ComponentLink5Description: https://datasheet.ciiva.com/5541/chpreztr-5541630.pdf?src-supplier=Mouser; Supplier 1: Digikey; Supplier Part Number 1: CR0805-FX-2202ELFCT-ND; RoHS: Yes; Category: Chip SMD Resistors; Stock 1: 35789; Pricing 1: 1=0,1, 10=0,021, 50=0,0132, 100=0,011, 500=0,00744, 1000=0,00639 (USD); Value: 22k
footprint R_0805_2012_a (Chip Resistor; Body 2.0 x 1.3 mm (LxW typ))
pins: 1, 2

## R_22R_b
designator R?, comment 22R
Resistor SMD 0805; Manufacturer: Stackpole Electronics; Manufacturer Part Number: RMCF0805FT22R0; Power Rating: 125mW; Tolerance: 1%; Temperature Coefficient: 100ppm/°C; Mounting Technology: Surface Mount; Case/Package: 0805; Case Code (Metric): 2012; Case Code (Imperial): 0805; Contact Plating: Tin,Matte; Min Operating Temperature: -55°C; Max Operating Temperature: 155°C; Packaging: Tape and Reel; Number of Terminations: 2; Max Power Dissipation: 125mW; Features: Automotive AEC-Q200; Series: RMCF; Length: 0.079inch; Width: 0.049inch; Height: 0.026inch; Ratings: AEC-Q200; Radiation Hardening: No; Lead Free: Lead Free; RoHS Compliant: Yes; ComponentLink1URL: http://components.arrow.com/part/dataview/53343875S4424N1174?src-supplier=Arrow+Electronics; ComponentLink1Description: http://components.arrow.com/part/dataview/53343875S4424N1174?src-supplier=Arrow+Electronics; ComponentLink2URL: https://www.seielect.com/catalog/SEI-RMCF_RMCP.pdf?src-supplier=Avnet; ComponentLink2Description: https://www.seielect.com/catalog/SEI-RMCF_RMCP.pdf?src-supplier=Avnet; ComponentLink3URL: https://www.seielect.com/catalog/SEI-Packaging.pdf?src-supplier=Digikey; ComponentLink3Description: https://www.seielect.com/catalog/SEI-Packaging.pdf?src-supplier=Digikey; ComponentLink4URL: http://www.seielect.com/Catalog/SEI-RMC.pdf?src-supplier=Future+Electronics; ComponentLink4Description: http://www.seielect.com/Catalog/SEI-RMC.pdf?src-supplier=Future+Electronics; ComponentLink5URL: https://datasheet.octopart.com/RMCF0805FT22R0-Stackpole-Electronics-datasheet-11547379.pdf?src-supplier=Future+Electronics; ComponentLink5Description: https://datasheet.octopart.com/RMCF0805FT22R0-Stackpole-Electronics-datasheet-11547379.pdf?src-supplier=Future+Electronics; Supplier 1: Digikey; Supplier Part Number 1: RMCF0805FT22R0CT-ND; RoHS: Yes; Category: Chip SMD Resistors; Stock 1: 6761; Pricing 1: 1=0,1, 10=0,02, 50=0,0124, 100=0,0103, 500=0,007, 1000=0,00601 (USD); Value: 22R
footprint R_0805_2012_a (Chip Resistor; Body 2.0 x 1.3 mm (LxW typ))
pins: 1, 2